# Altium schematic symbol library supply.SchLib: 5 symbols
Pins are listed as number, name and electrical type; pins without a type are passive.

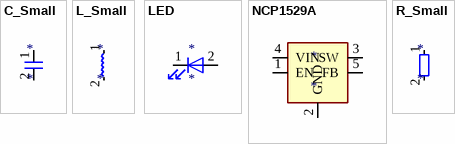
[diagram p0: symbols C_Small to R_Small]

## C_Small
designator *
pins: 1, 2

## L_Small
designator *
pins: 1, 2

## LED
designator *
pins: 1 K, 2 A

## NCP1529A
designator *
pins: 1 EN, 2 GND, 3 SW, 4 VIN, 5 FB

## R_Small
designator *
pins: 1, 2